# Altium schematic symbol library Pressure Sensors - Transducers.SchLib: 2 symbols
Pins are listed as number, name and electrical type; pins without a type are passive.

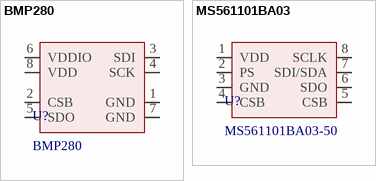
[diagram p0: symbols BMP280 to MS561101BA03]

## BMP280
designator U?
Natural Zytel 101 Nylon Shoulder Washer; Manufacturer: Adafruit Industries; Manufacturer Part Number: 2651; Designed: Ferdi; Supplier 1: Digi-Key; RoHS: Yes; Category: Sensors; Stock 1: 128; Pricing 1: 1=9,95 (USD); ComponentLink1URL: https://learn.adafruit.com/downloads/pdf/adafruit-bmp280-barometric-pressure-plus-temperature-sensor-breakout.pdf?src-supplier=Digi-Key; ComponentLink1Description: https://learn.adafruit.com/downloads/pdf/adafruit-bmp280-barometric-pressure-plus-temperature-sensor-breakout.pdf?src-supplier=Digi-Key; Supplier Part Number 1: 1528-1358-ND
footprint BMP280
pins: 1 GND, 2 CSB, 3 SDI, 4 SCK, 5 SDO, 6 VDDIO, 7 GND, 8 VDD

## MS561101BA03
designator U?, comment MS561101BA03-50
Pressure Sensor 1.44V to 3.6V 0.01bar to 1.2bar Absolute 8-Pin QFN T/R; Manufacturer: TE Connectivity; Output Type: SPI,I2C; Operating Pressure: 17.4PSI; Port Style: No Port; Max Pressure: 87.02PSI; Supplier 1: Digi-Key; Manufacturer Part Number: MS561101BA03-50; RoHS: Yes; Category: Pressure Sensors; Stock 1: 14456; Pricing 1: 1=11,67, 10=9,332, 25=8,6324, 100=7,4659, 500=6,9993, 1000=6,53268 (USD); Case/Package: SMD/SMT; Number of Pins: 8; Min Operating Temperature: -40°C; Max Operating Temperature: 85°C; Pressure Type: Absolute; Operating Supply Voltage: 3.6V; Termination: SMD/SMT; Series: -; Packaging: Cut Tape; RoHS Compliant: Yes; ComponentLink1URL: http://www.farnell.com/datasheets/2917208.pdf?src-supplier=Farnell; ComponentLink1Description: http://www.farnell.com/datasheets/2917208.pdf?src-supplier=Farnell; ComponentLink2URL: http://www.farnell.com/datasheets/1756128.pdf?src-supplier=Newark; ComponentLink2Description: http://www.farnell.com/datasheets/1756128.pdf?src-supplier=Newark; ComponentLink3URL: https://www.te.com/commerce/DocumentDelivery/DDEController?Action=srchrtrv&DocNm=MS5611-01BA03&DocType=Data+Sheet&DocLang=English&src-supplier=Digi-Key; ComponentLink3Description: https://www.te.com/commerce/DocumentDelivery/DDEController?Action=srchrtrv&DocNm=MS5611-01BA03&DocType=Data+Sheet&DocLang=English&src-supplier=Digi-Key; ComponentLink4URL: https://datasheet.octopart.com/MS561101BA03-50-TE-Connectivity-datasheet-21074432.pdf?src-supplier=Element14; ComponentLink4Description: https://datasheet.octopart.com/MS561101BA03-50-TE-Connectivity-datasheet-21074432.pdf?src-supplier=Element14; ComponentLink5URL: https://datasheet.octopart.com/MS561101BA03-50-TE-Connectivity-datasheet-65793092.pdf?src-supplier=Future+Electronics; ComponentLink5Description: https://datasheet.octopart.com/MS561101BA03-50-TE-Connectivity-datasheet-65793092.pdf?src-supplier=Future+Electronics; ComponentLink6URL: https://datasheet.octopart.com/MS561101BA03-50-TE-Connectivity-datasheet-134530980.pdf?src-supplier=Master+Electronics; ComponentLink6Description: https://datasheet.octopart.com/MS561101BA03-50-TE-Connectivity-datasheet-134530980.pdf?src-supplier=Master+Electronics; Supplier Part Number 1: 223-1622-1-ND; Digikey: Ferdi
footprint MS5611-01BA03
pins: 1 VDD, 2 PS, 3 GND, 4 CSB, 5 CSB, 6 SDO, 7 SDI/SDA, 8 SCLK